# EAGLE library part STI3470 (library Bits_library_eagle)
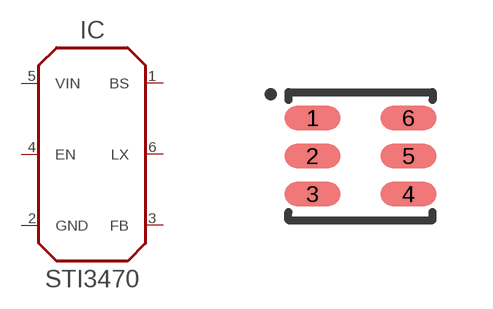
[diagram p7: symbol with the pads of SOT-23-6; footprint SOT-23-6]

Designator prefix IC

## STI3470  [SOT-23-6]
1  BS  pas
2  GND  pwr
3  FB  pas
4  EN
5  VIN  pwr
6  LX  pas

## Footprint SOT-23-6 (pad centres in mm)
Small Outline Transistor
smd 1.4 x 0.6: 1 -1.2,0.95; 2 -1.2,0; 3 -1.2,-0.95; 4 1.2,-0.95; 5 1.2,0; 6 1.2,0.95